# Altium schematic symbol library BR1632_FAN.Schlib: 1 symbol
Pins are listed as number, name and electrical type; pins without a type are passive.

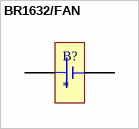
[diagram p0: symbol BR1632/FAN]

## BR1632/FAN
designator B?
16mm SMD Hi Temp Coin Cell
pins: 1 +, 2 -